# Altium footprint library WE-FCL.PcbLib: 1 footprints
Each footprint in its own frame and in the unit in brackets; x right, y up, seen from the top. Pads: shape width x height; smd on the part's side, far side on the other; paste and mask are expansions set on the pad; w line width, h text height; cw(c..) or ccw(c..) is an arc to the next point about the centre after c.
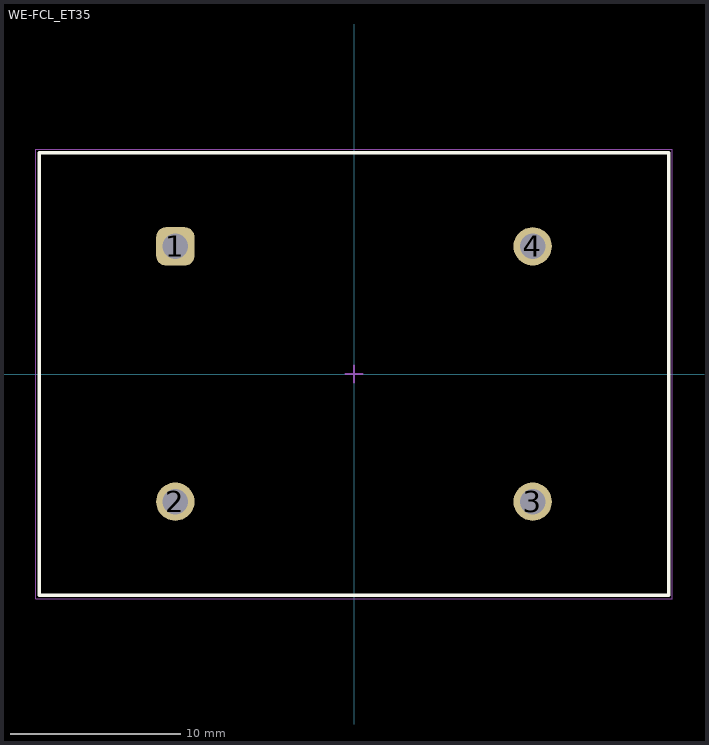
[diagram p0: the footprint, top view; thin cyan lines are the x and y axes]

## WE-FCL_ET35 [mm] "Common Mode Power Line Choke, body 37x26, 4 leads, THT"
height 45
pads (4):
  rrect50% 2.25x2.25 hole 1.5: 1(-10.5,7.5)
  round 2.25 hole 1.5: 2(-10.5,-7.5) 3(10.5,-7.5) 4(10.5,7.5)
Top Overlay:
  lines w0.2: -18.5,-13 -18.5,13 18.5,13 18.5,-13 -18.5,-13
Top Assembly:
  lines w0.1: -18.5,-13 18.5,-13 18.5,13 -18.5,13 -18.5,-13
Top Designator:
  text ".Designator" at -3.647,-0.357 h1
Top 3D Body:
  lines w0.1: -18.5,-13 18.5,-13 18.5,13 -18.5,13 -18.5,-13
Top Courtyard:
  lines w0.05: -18.7,-13.2 18.7,-13.2 18.7,13.2 -18.7,13.2 -18.7,-13.2
Top Component Center:
  lines w0.1: -0.5,0 0.5,0 ; 0,-0.5 0,0.5
3D body "744866xxx.stp": height 43.16, standoff -3.85, extent -18,-12.25 18,12.25